# Altium footprint library vesc.PcbLib: 8 footprints
Each footprint in its own frame and in the unit in brackets; x right, y up, seen from the top. Pads: shape width x height; smd on the part's side, far side on the other; paste and mask are expansions set on the pad; w line width, h text height; cw(c..) or ccw(c..) is an arc to the next point about the centre after c.
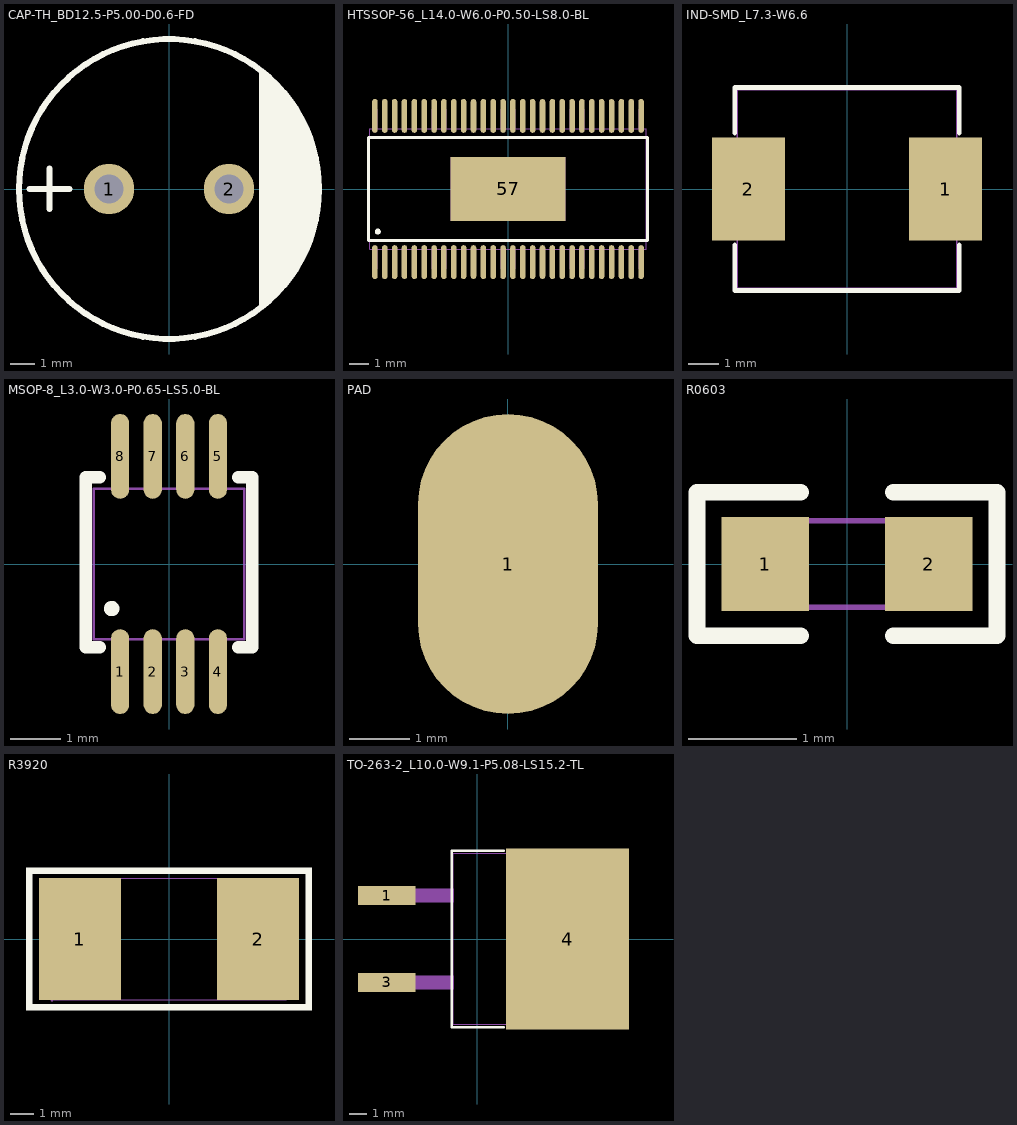
[diagram p0: the footprints below, top view; thin cyan lines are the x and y axes]

## CAP-TH_BD12.5-P5.00-D0.6-FD [mm]
pads (2):
  round 2.1 hole 1.2 paste-2539.97 mask+0.05: 1(-2.5,0) 2(2.5,0)
Top Overlay:
  circle w0.254: c0,0 r6.25
  region: 3.75,5 3.75,-5 4.482,-4.268 4.692,-4.058 5.068,-3.6 5.397,-3.106 5.677,-2.584 5.904,-2.036 6.076,-1.468 6.192,-0.887 6.25,-0.296 6.25,0 6.25,0.297 6.192,0.887 6.076,1.468 5.904,2.036 5.677,2.584 5.397,3.107 5.068,3.6 4.692,4.058 4.482,4.268
  lines w0.254: -5.817,0 -4.14,0 ; -4.979,-0.831 -4.979,0.845
Mechanical 15:
  region: 2.8,0 2.799,0.059 2.752,0.167 2.668,0.25 2.559,0.294 2.441,0.294 2.332,0.25 2.248,0.167 2.201,0.059 2.2,0 2.201,-0.059 2.248,-0.167 2.332,-0.25 2.441,-0.294 2.559,-0.294 2.668,-0.25 2.752,-0.167 2.799,-0.059
  region: -2.2,0 -2.201,0.059 -2.248,0.167 -2.332,0.25 -2.441,0.294 -2.559,0.294 -2.668,0.25 -2.752,0.167 -2.799,0.059 -2.8,0 -2.799,-0.059 -2.752,-0.167 -2.668,-0.25 -2.559,-0.294 -2.441,-0.294 -2.332,-0.25 -2.248,-0.167 -2.201,-0.059
  lines w0.051: -6.25,0 ccw(c0,0) 6.25,0 ccw(c0,0) -6.25,0

## HTSSOP-56_L14.0-W6.0-P0.50-LS8.0-BL [mm]
pads (57):
  oval 0.28x1.715 smd: 1(-6.75,-3.708) 2(-6.25,-3.708) 3(-5.75,-3.708) 4(-5.25,-3.708) 5(-4.75,-3.708) 6(-4.25,-3.708) 7(-3.75,-3.708) 8(-3.25,-3.708) 9(-2.75,-3.708) 10(-2.25,-3.708) 11(-1.75,-3.708) 12(-1.25,-3.708) 13(-0.75,-3.708) 14(-0.25,-3.708) 15(0.25,-3.708) 16(0.75,-3.708) 17(1.25,-3.708) 18(1.75,-3.708) 19(2.25,-3.708) 20(2.75,-3.708) 21(3.25,-3.708) 22(3.75,-3.708) 23(4.25,-3.708) 24(4.75,-3.708) 25(5.25,-3.708) 26(5.75,-3.708) 27(6.25,-3.708) 28(6.75,-3.708) 29(6.75,3.708) 30(6.25,3.708) 31(5.75,3.708) 32(5.25,3.708) 33(4.75,3.708) 34(4.25,3.708) 35(3.75,3.708) 36(3.25,3.708) 37(2.75,3.708) 38(2.25,3.708) 39(1.75,3.708) 40(1.25,3.708) 41(0.75,3.708) 42(0.25,3.708) 43(-0.25,3.708) 44(-0.75,3.708) 45(-1.25,3.708) 46(-1.75,3.708) 47(-2.25,3.708) 48(-2.75,3.708) 49(-3.25,3.708) 50(-3.75,3.708) 51(-4.25,3.708) 52(-4.75,3.708) 53(-5.25,3.708) 54(-5.75,3.708) 55(-6.25,3.708) 56(-6.75,3.708)
  rect 5.825x3.235 smd: 57(0,0)
Top Overlay:
  circle w0.152: c-6.604,-2.159 r0.076
  lines w0.152: -7.076,-2.621 7.076,-2.621 7.076,2.622 -7.076,2.622 -7.076,-2.621
Mechanical 15:
  drawing of 117 lines, arcs and shapes, not listed

## IND-SMD_L7.3-W6.6 [mm]
pads (2):
  rect 2.424x3.42 smd: 1(3.278,0) 2(-3.278,0)
Top Overlay:
  lines w0.152: -3.726,-1.862 -3.726,-3.376 3.726,-3.376 3.726,-1.862 ; -3.726,1.862 -3.726,3.376 3.726,3.376 3.726,1.862
Mechanical 15:
  region: -3.65,-1.5 -3.65,1.5 -2.15,1.5 -2.15,-1.5
  region: 3.65,-1.5 3.65,1.5 2.15,1.5 2.15,-1.5
  lines w0.051: -3.65,-3.3 -3.65,3.3 3.65,3.3 3.65,-3.3 -3.65,-3.3

## MSOP-8_L3.0-W3.0-P0.65-LS5.0-BL [mm]
pads (8):
  oval 0.364x1.692 smd: 1(-0.975,-2.146) 2(-0.325,-2.146) 3(0.325,-2.146) 4(0.975,-2.146) 5(0.975,2.146) 6(0.325,2.146) 7(-0.325,2.146) 8(-0.975,2.146)
Top Overlay:
  circle w0.152: c-1.143,-0.889 r0.076
  lines w0.254: -1.659,-1.658 -1.388,-1.658 ; -1.659,-1.652 -1.659,1.724 ; -1.659,1.73 -1.388,1.73 ; 1.388,-1.658 1.659,-1.658 1.659,1.73 1.388,1.73
Mechanical 15:
  region: -1.13,-2.45 -1.13,-1.85 -0.82,-1.85 -0.82,-2.45
  region: -1.13,-1.86 -1.13,-1.49 -0.82,-1.49 -0.82,-1.86
  region: -0.48,-2.45 -0.48,-1.85 -0.17,-1.85 -0.17,-2.45
  region: -0.48,-1.86 -0.48,-1.49 -0.17,-1.49 -0.17,-1.86
  region: 0.17,-2.45 0.17,-1.85 0.48,-1.85 0.48,-2.45
  region: 0.17,-1.86 0.17,-1.49 0.48,-1.49 0.48,-1.86
  region: 0.82,-2.45 0.82,-1.85 1.13,-1.85 1.13,-2.45
  region: 0.82,-1.86 0.82,-1.49 1.13,-1.49 1.13,-1.86
  region: -1.13,2.45 -1.13,1.85 -0.82,1.85 -0.82,2.45
  region: -1.13,1.86 -1.13,1.49 -0.82,1.49 -0.82,1.86
  region: -0.48,2.45 -0.48,1.85 -0.17,1.85 -0.17,2.45
  region: -0.48,1.86 -0.48,1.49 -0.17,1.49 -0.17,1.86
  region: 0.17,2.45 0.17,1.85 0.48,1.85 0.48,2.45
  region: 0.17,1.86 0.17,1.49 0.48,1.49 0.48,1.86
  region: 0.82,2.45 0.82,1.85 1.13,1.85 1.13,2.45
  region: 0.82,1.86 0.82,1.49 1.13,1.49 1.13,1.86
  lines w0.051: -1.5,-1.5 -1.5,1.5 1.5,1.5 1.5,-1.5 -1.5,-1.5

## PAD [mm]
height 1
pads (1):
  oval 3x5 smd mask+0.102: 1(0,0)

## R0603 [mm]
pads (2):
  rect 0.806x0.864 smd paste-100 mask+0.051: 1(-0.753,0) 2(0.753,0)
Top Overlay:
  lines w0.152: -0.426,-0.661 -1.385,-0.661 -1.385,0.661 -0.426,0.661 ; 0.426,-0.661 1.385,-0.661 1.385,0.661 0.426,0.661
Top Paste:
  region: 1.195,0.45 0.395,0.45 0.345,0.4 0.345,0.172 0.715,0.172 0.715,-0.158 0.345,-0.158 0.345,-0.4 0.395,-0.45 1.195,-0.45 1.245,-0.4 1.245,0.4
  region: -1.195,-0.45 -0.395,-0.45 -0.345,-0.4 -0.345,-0.172 -0.715,-0.172 -0.715,0.158 -0.345,0.158 -0.345,0.4 -0.395,0.45 -1.195,0.45 -1.245,0.4 -1.245,-0.4
Mechanical 15:
  region: -0.8,-0.4 -0.8,0.4 -0.5,0.4 -0.5,-0.4
  region: 0.8,-0.4 0.8,0.4 0.5,0.4 0.5,-0.4
  lines w0.051: -0.8,-0.4 -0.8,0.4 0.8,0.4 0.8,-0.4 -0.8,-0.4

## R3920 [mm]
pads (2):
  rect 3.5x5.2 smd: 1(-3.81,0) 2(3.81,0)
Top Overlay:
  region: 5.842,-3.048 -5.842,-3.048 -5.842,-2.794 5.842,-2.794
  region: 6.096,3.048 6.096,-3.048 5.842,-3.048 5.842,2.794
  region: -6.096,-3.048 -6.096,3.048 -5.842,3.048 6.096,3.048 6.096,2.794 -5.842,2.794 -5.842,-3.048
Mechanical 15:
  region: 5,-2.6 2.25,-2.6 2.25,2.6 5,2.6
  region: -5,2.6 -2.25,2.6 -2.25,-2.6 -5,-2.6
  region: -4.94,-2.6 -4.941,-2.576 -4.976,-2.542 -5.024,-2.542 -5.059,-2.576 -5.06,-2.6 -5.059,-2.624 -5.024,-2.658 -4.976,-2.658 -4.941,-2.624
  lines w0.051: -5,-2.6 -5,2.6 5,2.6 5,-2.6 -5,-2.6

## TO-263-2_L10.0-W9.1-P5.08-LS15.2-TL [mil]
pads (3):
  rect 132.23x44.65 smd: 1(-208.1,100) 3(-208.1,-100)
  rect 282.7x416 smd: 4(208.1,0)
Top Overlay:
  lines w6: 60.75,-203 -58.3,-203 -58.3,203 60.75,203
Mechanical 15:
  region: -261.09,84.06 -261.09,115.94 -161.09,115.94 -161.09,84.06
  region: -161.78,84.06 -161.78,115.94 -54.3,115.94 -54.3,84.06
  region: -261.09,-115.94 -261.09,-84.06 -161.09,-84.06 -161.09,-115.94
  region: -161.78,-115.94 -161.78,-84.06 -54.3,-84.06 -54.3,-115.94
  region: 66.75,-200 66.75,200 297.23,200 337.23,160 337.23,-160 297.23,-200
  lines w2: -54.73,-196.33 -54.73,197.37 303.53,197.37 303.53,-196.33 -54.73,-196.33